# Altium footprint library LGA-14L.PcbLib: 1 footprints
Each footprint in its own frame and in the unit in brackets; x right, y up, seen from the top. Pads: shape width x height; smd on the part's side, far side on the other; paste and mask are expansions set on the pad; w line width, h text height; cw(c..) or ccw(c..) is an arc to the next point about the centre after c.
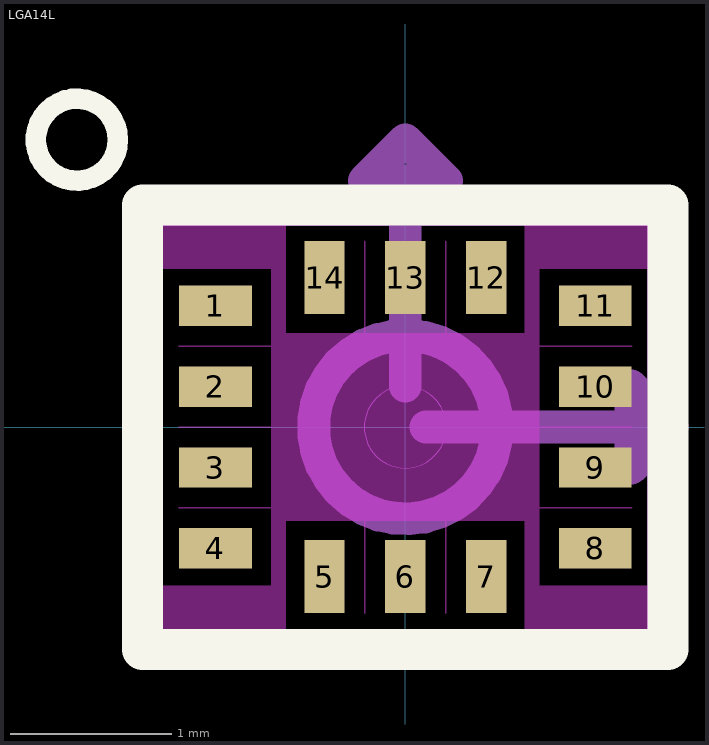
[diagram p0: the footprint, top view; thin cyan lines are the x and y axes]

## LGA14L [mm]
pads (14):
  rect 0.45x0.25 smd: 1(-1.175,0.75) 2(-1.175,0.25) 3(-1.175,-0.25) 4(-1.175,-0.75) 8(1.175,-0.75) 9(1.175,-0.25) 10(1.175,0.25) 11(1.175,0.75)
  rect 0.25x0.45 smd: 5(-0.5,-0.925) 6(0,-0.925) 7(0.5,-0.925) 12(0.5,0.925) 13(0,0.925) 14(-0.5,0.925)
Top Overlay:
  circle w0.127: c-2.032,1.778 r0.254
  lines w0.254: -1.625,-1.375 -1.625,1.375 1.625,1.375 1.625,-1.375 -1.625,-1.375
Keep-Out Layer:
  region: -0.74,-0.98 -0.83,-0.98 -0.83,-0.58 -0.74,-0.58
  region: 0.83,-0.98 0.74,-0.98 0.74,-0.58 0.83,-0.58
  region: 0.83,0.58 0.74,0.58 0.74,0.98 0.83,0.98
  region: -0.74,0.58 -0.83,0.58 -0.83,0.98 -0.74,0.98
  region: -0.74,-1.25 -1.5,-1.25 -1.5,-0.98 -0.74,-0.98
  region: 1.5,-1.25 0.74,-1.25 0.74,-0.98 1.5,-0.98
  region: 1.5,0.98 0.74,0.98 0.74,1.25 1.5,1.25
  region: -0.74,0.98 -1.5,0.98 -1.5,1.25 -0.74,1.25
  region: 0.83,-0.58 -0.83,-0.58 -0.83,0.58 0.83,0.58
  lines w0.01: -1.4,-0.5 -0.67,-0.5 ; -1.4,0 -0.67,0 ; -1.4,0.5 -0.67,0.5 ; -0.25,-1.15 -0.25,-0.42 ; -0.25,0.42 -0.25,1.15 ; 0.25,-1.15 0.25,-0.42 ; 0.25,0.42 0.25,1.15 ; 0.67,-0.5 1.4,-0.5 ; 0.67,0 1.4,0 ; 0.67,0.5 1.4,0.5
Mechanical 13:
  circle w0: c0,0 r0.254
  circle w0.203: c0,0 r0.568
  lines w0: -1.5,-1.25 -1.5,1.25 1.5,1.25 1.5,-1.25 -1.5,-1.25
  lines w0.203: 0,0.254 0,1.524 ; 0.127,0 1.397,0 ; 0,1.524 0.254,1.524 0,1.778 -0.254,1.524 0,1.524 ; 1.397,0 1.397,-0.254 1.651,0 1.397,0.254 1.397,0
  text "Z" at -1.524,-0.508 h1.02
  text "Y" at 0.406,0.838 h1.02
  text "X" at 1.778,-0.508 h1.02
3D body "LSM6DSO.STEP": height 0.86, standoff 0, extent -1.5,-1.25 1.5,1.25